# EAGLE library part MKL26 (library EurorackModularParts)
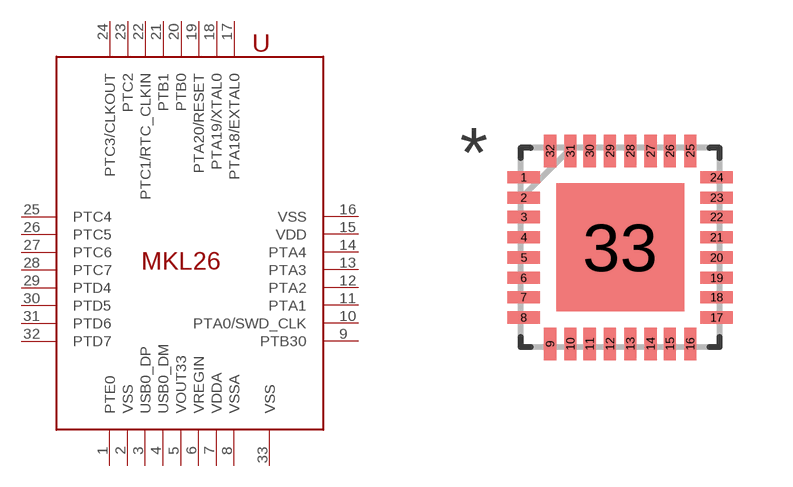
[diagram p16: symbol with the pads of QFN50P500X500X90-33N; footprint QFN50P500X500X90-33N]

Designator prefix -

## MKL26  [QFN50P500X500X90-33N]
1  PTE0
2  VSS
3  USB0_DP
4  USB0_DM
5  VOUT33
6  VREGIN
7  VDDA
8  VSSA
9  PTB30
10  PTA0/SWD_CLK
11  PTA1
12  PTA2
13  PTA3
14  PTA4
15  VDD
16  VSS
17  PTA18/EXTAL0
18  PTA19/XTAL0
19  PTA20/RESET
20  PTB0
21  PTB1
22  PTC1/RTC_CLKIN
23  PTC2
24  PTC3/CLKOUT
25  PTC4
26  PTC5
27  PTC6
28  PTC7
29  PTD4
30  PTD5
31  PTD6
32  PTD7
33  VSS

## Footprint QFN50P500X500X90-33N (pad centres in mm)
smd 0.813 x 0.305: 1 -2.413,1.753; 2 -2.413,1.245; 3 -2.413,0.762; 4 -2.413,0.254; 5 -2.413,-0.254; 6 -2.413,-0.762; 7 -2.413,-1.245; 8 -2.413,-1.753; 17 2.413,-1.753; 18 2.413,-1.245; 19 2.413,-0.762; 20 2.413,-0.254; 21 2.413,0.254; 22 2.413,0.762; 23 2.413,1.245; 24 2.413,1.753
smd 0.305 x 0.813: 9 -1.753,-2.413; 10 -1.245,-2.413; 11 -0.762,-2.413; 12 -0.254,-2.413; 13 0.254,-2.413; 14 0.762,-2.413; 15 1.245,-2.413; 16 1.753,-2.413; 25 1.753,2.413; 26 1.245,2.413; 27 0.762,2.413; 28 0.254,2.413; 29 -0.254,2.413; 30 -0.762,2.413; 31 -1.245,2.413; 32 -1.753,2.413
smd 3.2 x 3.2: 33 0,0